# EAGLE library part PIC12F529T48A (library microchip)
14-Pin, 8-Bit Flash Microcontrollers Source: 41634A.pdf
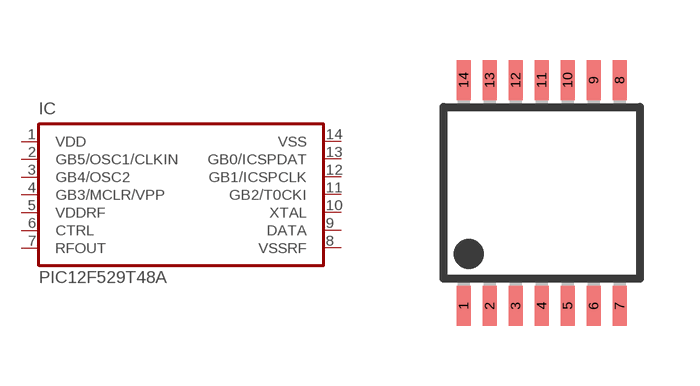
[diagram p96: symbol with the pads of TSSOP14; footprint TSSOP14]

Designator prefix IC

## PIC12F529T48A  [TSSOP14]
1  VDD  pwr
2  GB5/OSC1/CLKIN  hiz
3  GB4/OSC2  hiz
4  GB3/MCLR/VPP  in
5  VDDRF  in
6  CTRL  in
7  RFOUT  out
8  VSSRF  in
9  DATA  in
10  XTAL  in
11  GB2/T0CKI  hiz
12  GB1/ICSPCLK  hiz
13  GB0/ICSPDAT  hiz
14  VSS  pwr

## Footprint TSSOP14 (pad centres in mm)
14-Lead Plastic Thin Shrink Small Outline (ST) - 4.4 mm Body TSSOP Source: http://ww1.microchip.com/downloads/en/DeviceDoc/40039E.pdf
smd 0.35 x 1: 1 -1.95,-2.825; 2 -1.3,-2.825; 3 -0.65,-2.825; 4 0,-2.825; 5 0.65,-2.825; 6 1.3,-2.825; 7 1.95,-2.825; 8 1.95,2.825; 9 1.3,2.825; 10 0.65,2.825; 11 0,2.825; 12 -0.65,2.825; 13 -1.3,2.825; 14 -1.95,2.825